# EAGLE library part ATSAMD21G18A-MU (library ATSAMD21G18A-MU)
Cortex-M0+, 256KB FLASH, 32KB SRAM, USB, DMA, T&R - 48QFN IND TEMP, GREEN, 1.6-3.6V, 48MHz/ QFN (ZA) Check availability <https://pricing.snapeda.com/parts/ATSAMD21G18A-MU/Microchip/view-part?ref=eda>
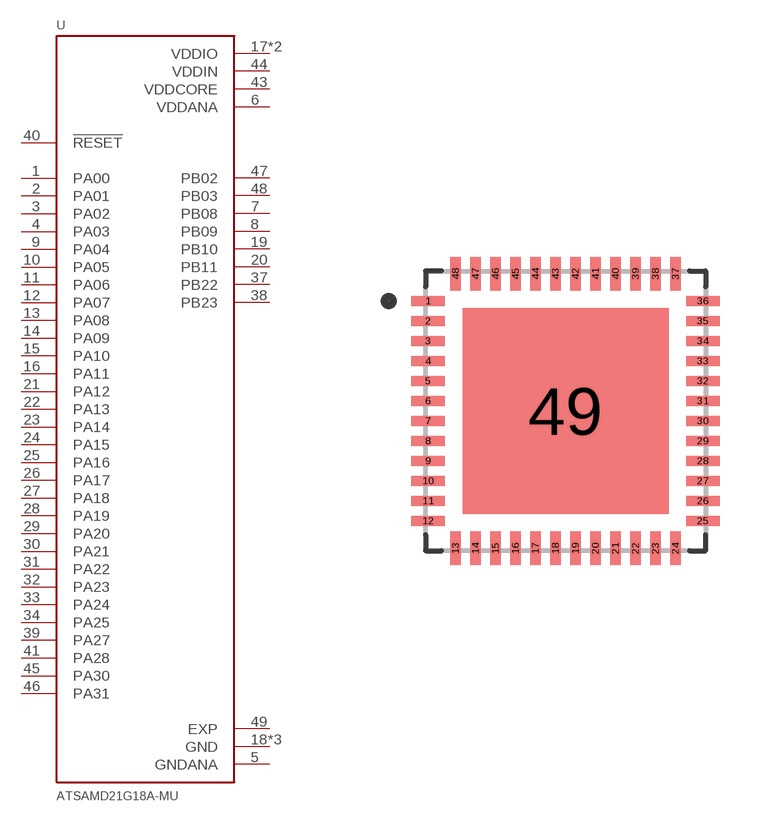
[diagram p0: symbol with the pads of QFN50P700X700X90-49N; footprint QFN50P700X700X90-49N]

Designator prefix U

## ATSAMD21G18A-MU (AVAILABILITY: In Stock; CHECK_PRICES: https://www.snapeda.com/parts/ATSAMD21G18A-MU/Microchip/view-part/?ref=eda; DESCRIPTION: ARM® Cortex®-M0+ SAM D21G, Functional Safety (FuSa) Microcontroller IC 32-Bit Single-Core 48MHz 256KB (256K x 8) FLASH 48-QFN (7x7); MF: Microchip; MP: ATSAMD21G18A-MU; PACKAGE: QFN-48 Microchip; PRICE: None; PURCHASE-URL: https://www.snapeda.com/api/url_track_click_mouser/?unipart_id=590181&manufacturer=Microchip&part_name=ATSAMD21G18A-MU&search_term=atsamd21g18a; SNAPEDA_LINK: https://www.snapeda.com/parts/ATSAMD21G18A-MU/Microchip/view-part/?ref=snap)  [QFN50P700X700X90-49N]
1  PA00
2  PA01
3  PA02
4  PA03
5  GNDANA  pwr
6  VDDANA  pwr
7  PB08
8  PB09
9  PA04
10  PA05
11  PA06
12  PA07
13  PA08
14  PA09
15  PA10
16  PA11
17  VDDIO  pwr
18  GND  pwr
19  PB10
20  PB11
21  PA12
22  PA13
23  PA14
24  PA15
25  PA16
26  PA17
27  PA18
28  PA19
29  PA20
30  PA21
31  PA22
32  PA23
33  PA24
34  PA25
35  GND  pwr
36  VDDIO  pwr
37  PB22
38  PB23
39  PA27
40  !RESET  in
41  PA28
42  GND  pwr
43  VDDCORE  pwr
44  VDDIN  pwr
45  PA30
46  PA31
47  PB02
48  PB03
49  EXP  pwr

## Footprint QFN50P700X700X90-49N (pad centres in mm)
smd 0.84 x 0.26: 1 -3.435,2.75; 2 -3.435,2.25; 3 -3.435,1.75; 4 -3.435,1.25; 5 -3.435,0.75; 6 -3.435,0.25; 7 -3.435,-0.25; 8 -3.435,-0.75; 9 -3.435,-1.25; 10 -3.435,-1.75; 11 -3.435,-2.25; 12 -3.435,-2.75; 25 3.435,-2.75; 26 3.435,-2.25; 27 3.435,-1.75; 28 3.435,-1.25; 29 3.435,-0.75; 30 3.435,-0.25; 31 3.435,0.25; 32 3.435,0.75; 33 3.435,1.25; 34 3.435,1.75; 35 3.435,2.25; 36 3.435,2.75
smd 0.26 x 0.84: 13 -2.75,-3.435; 14 -2.25,-3.435; 15 -1.75,-3.435; 16 -1.25,-3.435; 17 -0.75,-3.435; 18 -0.25,-3.435; 19 0.25,-3.435; 20 0.75,-3.435; 21 1.25,-3.435; 22 1.75,-3.435; 23 2.25,-3.435; 24 2.75,-3.435; 37 2.75,3.435; 38 2.25,3.435; 39 1.75,3.435; 40 1.25,3.435; 41 0.75,3.435; 42 0.25,3.435; 43 -0.25,3.435; 44 -0.75,3.435; 45 -1.25,3.435; 46 -1.75,3.435; 47 -2.25,3.435; 48 -2.75,3.435
smd 5.15 x 5.15: 49 0,0